# Altium footprint library EE490.PcbLib: 59 footprints (part 4 of 4)
Each footprint in its own frame and in the unit in brackets; x right, y up, seen from the top. Pads: shape width x height; smd on the part's side, far side on the other; paste and mask are expansions set on the pad; w line width, h text height; cw(c..) or ccw(c..) is an arc to the next point about the centre after c.
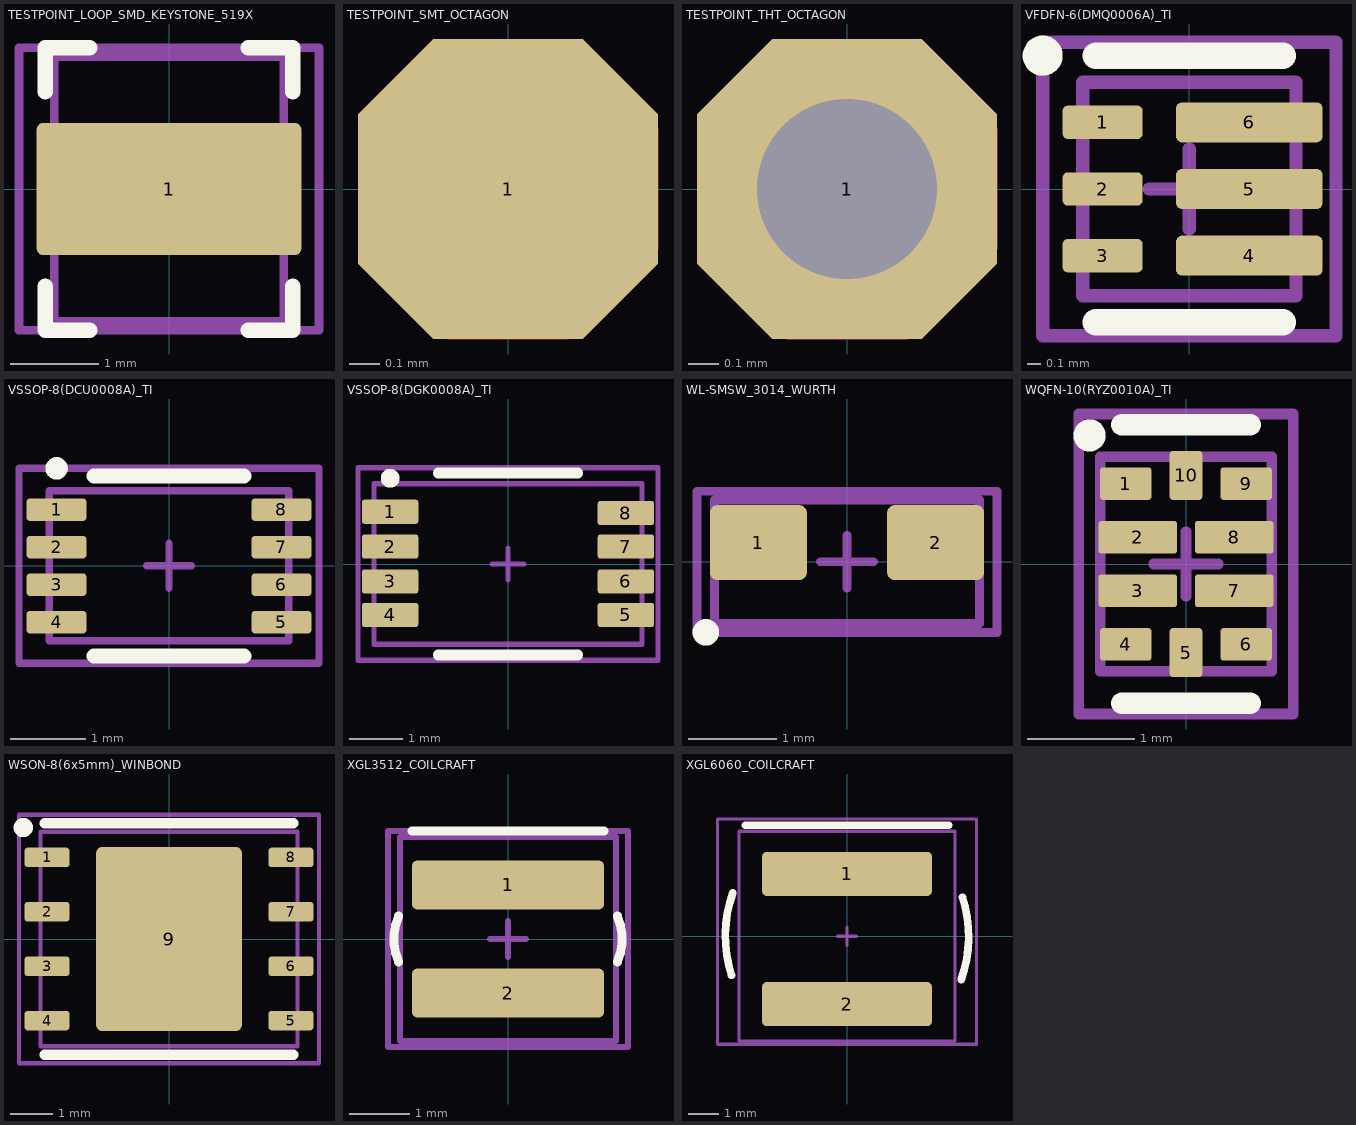
[diagram p3: the footprints below, top view; thin cyan lines are the x and y axes]

## TESTPOINT_LOOP_SMD_KEYSTONE_519X [mm]
height 0.6
pads (1):
  rrect10% 3x1.5 smd: 1(0,0)
Top Overlay:
  lines w0.175: -1.4,-1.1 -1.4,-1.6 -0.9,-1.6 ; -1.4,1.1 -1.4,1.6 -0.9,1.6 ; 0.9,-1.6 1.4,-1.6 1.4,-1.1 ; 0.9,1.6 1.4,1.6 1.4,1.1
Top Component Center:
  lines w0.1: -0.3,0 0.3,0 ; 0,-0.3 0,0.3
Top Component Outline:
  lines w0.1: -1.3,-1.5 1.3,-1.5 1.3,1.5 -1.3,1.5 -1.3,-1.5
Top Designator:
  text ".Designator" at -4.998,-0.333 h1
Top Courtyard:
  lines w0.1: -1.7,-1.6 1.7,-1.6 1.7,1.6 -1.7,1.6 -1.7,-1.6
3D body "5190TR--3DModel-STEP-630548 Color.stp": height 2.49, standoff -0.01, extent -1.25,-1.5 1.25,1.5

## TESTPOINT_SMT_OCTAGON [mm]
pads (1):
  oct 1x1 smd: 1(0,0)
Top Layer:
  region: -0.2,-0.5 -0.5,-0.2 -0.5,0.2 -0.2,0.5 0.2,0.5 0.5,0.2 0.5,-0.2 0.2,-0.5

## TESTPOINT_THT_OCTAGON [mm]
pads (1):
  oct 1x1 hole 0.6: 1(0,0)
Top Layer:
  region: -0.2,-0.5 -0.5,-0.2 -0.5,0.2 -0.2,0.5 0.2,0.5 0.5,0.2 0.5,-0.2 0.2,-0.5
Bottom Layer:
  region: -0.2,-0.5 -0.5,-0.2 -0.5,0.2 -0.2,0.5 0.2,0.5 0.5,0.2 0.5,-0.2 0.2,-0.5

## VFDFN-6(DMQ0006A)_TI [mm]
height 0.6
pads (6):
  rrect30% 0.6x0.25 smd mask+0.055: 1(-0.65,0.5) 2(-0.65,0) 3(-0.65,-0.5)
  rrect30% 1.1x0.3 smd mask+0.045: 4(0.45,-0.5) 5(0.45,0) 6(0.45,0.5)
Top Overlay:
  circle w0.2: c-1.1,1 r0.05
  lines w0.2: -0.7,-1 0.7,-1 ; -0.7,1 0.7,1
Top Component Center:
  lines w0.1: -0.3,0 0.3,0 ; 0,-0.3 0,0.3
Top Component Outline:
  lines w0.1: -0.8,-0.8 0.8,-0.8 0.8,0.8 -0.8,0.8 -0.8,-0.8
Top Designator:
  text ".Designator" at -4.998,-0.333 h1
Top Courtyard:
  lines w0.1: -1.1,-1.1 1.1,-1.1 1.1,1.1 -1.1,1.1 -1.1,-1.1
3D body "DMQ0006A.stp": height 1, standoff 0, extent -0.75,-0.75 0.75,0.75

## VSSOP-8(DCU0008A)_TI [mm]
height 0.6
pads (8):
  rrect30% 0.8x0.3 smd mask+0.05: 1(-1.5,0.75) 2(-1.5,0.25) 3(-1.5,-0.25) 4(-1.5,-0.75) 5(1.5,-0.75) 6(1.5,-0.25) 7(1.5,0.25) 8(1.5,0.75)
Top Overlay:
  circle w0.2: c-1.5,1.3 r0.05
  lines w0.2: -1,-1.2 1,-1.2 ; -1,1.2 1,1.2
Top Component Center:
  lines w0.1: -0.3,0 0.3,0 ; 0,-0.3 0,0.3
Top Component Outline:
  lines w0.1: -1.6,-1 -1.6,1 1.6,1 1.6,-1 -1.6,-1
Top Designator:
  text ".Designator" at -4.998,-0.333 h1
Top Courtyard:
  lines w0.1: -2,-1.3 2,-1.3 2,1.3 -2,1.3 -2,-1.3
3D body "DCU0008A-Color.stp": height 0.77, standoff 0, extent -1.55,-1 1.55,1

## VSSOP-8(DGK0008A)_TI [mm]
pads (8):
  rrect20% 1.05x0.45 smd mask+0.035: 1(-2.2,0.975) 2(-2.2,0.325) 3(-2.2,-0.325) 4(-2.2,-0.95) 5(2.2,-0.95) 6(2.2,-0.325) 7(2.2,0.325) 8(2.2,0.95)
Top Overlay:
  circle w0.25: c-2.2,1.6 r0.05
  lines w0.2: -1.3,-1.7 1.3,-1.7 ; -1.3,1.7 1.3,1.7
Top Component Center:
  lines w0.1: -0.3,0 0.3,0 ; 0,-0.3 0,0.3
Top Component Outline:
  lines w0.1: -2.5,-1.5 2.5,-1.5 2.5,1.5 -2.5,1.5 -2.5,-1.5
Top Designator:
  text ".Designator" at -5.09,-0.332 h1
Top Courtyard:
  lines w0.1: -2.8,-1.8 2.8,-1.8 2.8,1.8 -2.8,1.8 -2.8,-1.8
3D body "DGK0008A Color.stp": height 1.1, standoff 0, extent -2.451,-1.499 2.451,1.499

## WL-SMSW_3014_WURTH [mm]
height 0.6
pads (2):
  rrect20% 1.1x0.85 smd: 1(-1.005,0.218) 2(1.005,0.218)
Top Overlay:
  circle w0.2: c-1.6,-0.8 r0.05
Top Component Center:
  lines w0.1: -0.3,0 0.3,0 ; 0,-0.3 0,0.3
Top Component Outline:
  lines w0.1: -1.5,-0.7 1.5,-0.7 1.5,0.7 -1.5,0.7 -1.5,-0.7
Top Designator:
  text ".Designator" at -4.998,-0.333 h1
Top Courtyard:
  lines w0.1: -1.7,-0.8 1.7,-0.8 1.7,0.8 -1.7,0.8 -1.7,-0.8
3D body "Glue.stp": height 1.39, standoff 0.21, extent -1.21,-0.687 1.21,-0.287
3D body "Housing-Color.stp": height 1.55, standoff 0, extent -1.5,-0.687 1.5,0.693

## WQFN-10(RYZ0010A)_TI [mil]
height 31.5
pads (10):
  rrect20% 19x12 smd mask+0.98: 1(-22.15,29.53) 4(-22.15,-29.53) 6(22.15,-29.53) 9(22.15,29.53)
  rrect20% 29x12 smd mask+0.98: 2(-17.72,9.84) 3(-17.72,-9.84) 7(17.72,-9.84) 8(17.72,9.84)
  rrect20% 12x18 smd mask+0.98: 5(0,-32.53) 10(0,32.53)
Top Overlay:
  circle w7.87: c-35.43,47.24 r1.97
  lines w7.87: -23.62,-51.18 23.62,-51.18 ; -23.62,51.18 23.62,51.18
Top Component Center:
  lines w3.94: -11.81,0 11.81,0 ; 0,-11.81 0,11.81
Top Component Outline:
  lines w3.94: -31.5,-39.37 31.5,-39.37 31.5,39.37 -31.5,39.37 -31.5,-39.37
Top Designator:
  text ".Designator" at -200.38,-13.08 h39.37
Top Courtyard:
  lines w3.94: -39.37,-55.12 39.37,-55.12 39.37,55.12 -39.37,55.12 -39.37,-55.12
3D body "RYZ0010A Color.stp": height 31.5, standoff 0, extent -29.53,-39.37 29.53,39.37

## WSON-8(6x5mm)_WINBOND [mm]
height 0.8
pads (9):
  rrect30% 1.05x0.45 smd: 1(-2.845,1.905) 2(-2.845,0.635) 3(-2.845,-0.635) 4(-2.845,-1.905) 5(2.845,-1.905) 6(2.845,-0.635) 7(2.845,0.635) 8(2.845,1.905)
  rrect8% 3.4x4.3 smd paste-3: 9(0,0)
Top Overlay:
  circle w0.25: c-3.4,2.6 r0.1
  lines w0.25: -2.9,-2.7 2.9,-2.7 ; -2.9,2.7 2.9,2.7
Top Paste:
  region: 1.08,-1.36 -1.08,-1.36 -1.08,1.36 1.08,1.36
Top Component Center:
  lines w0.1: -0.3,0 0.3,0 ; 0,-0.3 0,0.3
Top Component Outline:
  lines w0.1: -3,-2.5 3,-2.5 3,2.5 -3,2.5 -3,-2.5
Top Designator:
  text ".Designator" at -4.998,-0.333 h1
Top Courtyard:
  lines w0.1: -3.5,-2.9 -3.5,2.9 3.5,2.9 3.5,-2.9 -3.5,-2.9
3D body "W25Q128FVPIG-Color.stp": height 0.8, standoff 0, extent -3,-2.5 3,2.5

## XGL3512_COILCRAFT [mm]
height 0.47
pads (2):
  rrect20% 3.2x0.81 smd: 1(0,0.9) 2(0,-0.9)
Top Overlay:
  lines w0.15: -1.821,-0.383 cw(c-0.928,0) -1.821,0.383 ; -1.6,1.8 1.6,1.8 ; 1.821,-0.383 ccw(c0.928,0) 1.821,0.383
Top Component Center:
  lines w0.1: -0.3,0 0.3,0 ; 0,-0.3 0,0.3
Top Component Outline:
  lines w0.1: -1.8,-1.7 1.8,-1.7 1.8,1.7 -1.8,1.7 -1.8,-1.7
Top Designator:
  text ".Designator" at -5.09,-0.332 h1
Top Courtyard:
  lines w0.1: -2,-1.8 2,-1.8 2,1.8 -2,1.8 -2,-1.8
3D body "Coilcraft-XGL3512-Color.stp": height 1.2, standoff 0, extent -1.825,-1.675 1.825,1.675

## XGL6060_COILCRAFT [mm]
height 6.1
pads (2):
  rrect20% 5.5x1.43 smd: 1(0,2.02) 2(0,-2.2)
Top Overlay:
  lines w0.25: -3.742,-1.264 cw(c0.191,0.007) -3.7,1.4 ; -3.3,3.6 3.3,3.6 ; 3.7,-1.4 ccw(c-0.191,-0.007) 3.742,1.264
Top Component Center:
  lines w0.1: -0.3,0 0.3,0 ; 0,-0.3 0,0.3
Top Component Outline:
  lines w0.1: -3.5,-3.4 3.5,-3.4 3.5,3.4 -3.5,3.4 -3.5,-3.4
Top Designator:
  text ".Designator" at -7.589,-0.499 h1.5
Top Courtyard:
  lines w0.1: -4.2,-3.5 4.2,-3.5 4.2,3.8 -4.2,3.8 -4.2,-3.5
3D body "Coilcraft-XGL6060 Color.stp": height 6, standoff -0.1, extent -3.455,-3.355 3.455,3.355